# Altium footprint library gms.PcbLib: 4 footprints
Each footprint in its own frame and in the unit in brackets; x right, y up, seen from the top. Pads: shape width x height; smd on the part's side, far side on the other; paste and mask are expansions set on the pad; w line width, h text height; cw(c..) or ccw(c..) is an arc to the next point about the centre after c.
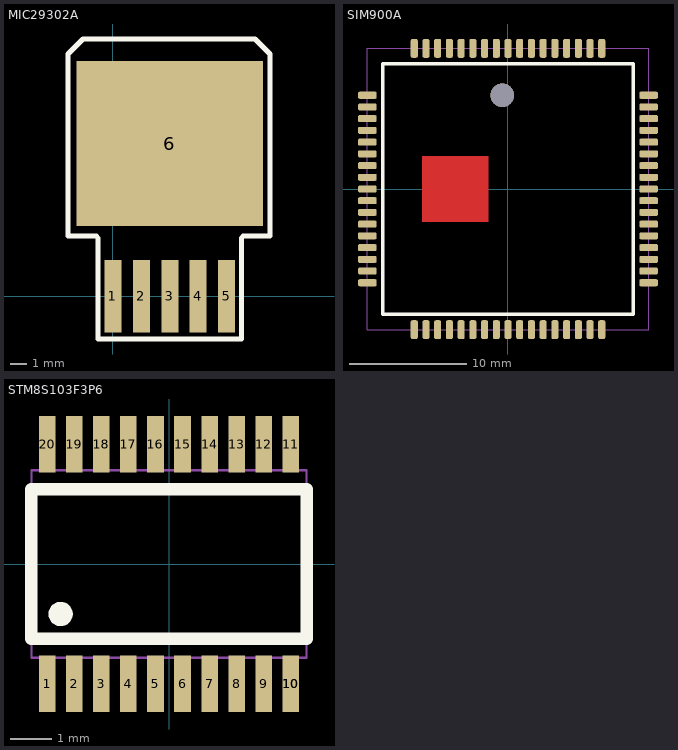
[diagram p0: the footprints below, top view; thin cyan lines are the x and y axes]

## FMS006-2620 [mm] "Series FMS  SIM Card Reader (Push / Push, Low Profile Std. Type w/o Switch)"
height 1.95

## MIC29302A [mil] "5-Pin TO-263 (U)"
height 93.98
pads (6):
  rect 40x170 smd: 1(0,0) 2(67,0) 3(134,0) 4(201,0) 5(268,0)
  rect 440x390 smd: 6(134,360)
Top Overlay:
  lines w11.81: -39.09,141.73 -106.02,141.73 -106.02,570.87 -70.58,606.3 334.93,606.3 370.36,570.87 370.36,141.73 306.58,141.73 ; -35.15,137.8 -35.15,-100.75 22.83,-100.75 303.43,-100.75 ; 302.65,-100.75 302.65,137.8
3D body "MIC29302WU--3DModel-STEP-56544.STEP": height 194.06, standoff -5.94, extent -66,0 334,587

## SIM900A [mm] "SMD-SIM900A"
height 3.25
pads (68):
  rrect50% 1.6x0.6 smd: 1(-12,8) 2(-12,7) 3(-12,6) 4(-12,5) 5(-12,4) 6(-12,3) 7(-12,2) 8(-12,1) 9(-12,0) 10(-12,-1) 11(-12,-2) 12(-12,-3) 13(-12,-4) 14(-12,-5) 15(-12,-6) 16(-12,-7) 17(-12,-8) 35(12,-8) 36(12,-7) 37(12,-6) 38(12,-5) 39(12,-4) 40(12,-3) 41(12,-2) 42(12,-1) 43(12,0) 44(12,1) 45(12,2) 46(12,3) 47(12,4) 48(12,5) 49(12,6) 50(12,7) 51(12,8)
  rrect50% 0.6x1.6 smd: 18(-8,-12) 19(-7,-12) 20(-6,-12) 21(-5,-12) 22(-4,-12) 23(-3,-12) 24(-2,-12) 25(-1,-12) 26(0,-12) 27(1,-12) 28(2,-12) 29(3,-12) 30(4,-12) 31(5,-12) 32(6,-12) 33(7,-12) 34(8,-12) 52(8,12) 53(7,12) 54(6,12) 55(5,12) 56(4,12) 57(3,12) 58(2,12) 59(1,12) 60(0,12) 61(-1,12) 62(-2,12) 63(-3,12) 64(-4,12) 65(-5,12) 66(-6,12) 67(-7,12) 68(-8,12)
via -0.5,8 diameter 2 hole 2
Top Layer:
  pour cut-out: -7.3,2.8 -7.3,-2.8 -1.7,-2.8 -1.7,2.8
Top Overlay:
  lines w0.3: -10.7,-10.7 -10.7,10.7 10.7,10.7 10.7,-10.7 -10.7,-10.7
Mechanical 1:
  lines w0.05: -12,-12 12,-12 12,12 -12,12 -12,-12
3D body "User Library-GSM_SIM900.STEP": height 3, standoff 0, extent -12,-12 12,12

## STM8S103F3P6 [mm] "8bit MCU TSSOP20 packages"
height 1.2
pads (22):
  rect 0.4x1.35 smd: 1(-2.925,-2.875) 2(-2.275,-2.875) 3(-1.625,-2.875) 4(-0.975,-2.875) 5(-0.325,-2.875) 6(0.325,-2.875) 7(0.975,-2.875) 8(1.625,-2.875) 9(2.275,-2.875) 10(2.925,-2.875) 10(2.925,-2.875) 10(2.925,-2.875) 11(2.925,2.875) 12(2.275,2.875) 13(1.625,2.875) 14(0.975,2.875) 15(0.325,2.875) 16(-0.325,2.875) 17(-0.975,2.875) 18(-1.625,2.875) 19(-2.275,2.875) 20(-2.925,2.875)
Top Overlay:
  circle w0.3: c-2.6,-1.2 r0.141
  lines w0.3: -3.3,0.9 -3.3,1.8 3.3,1.8 3.3,-1.8 -3.3,-1.8 -3.3,1
Mechanical 1:
  lines w0.05: -3.3,-2.25 -3.3,2.25 3.3,2.25 3.3,-2.25 -3.3,-2.25